# Altium integrated library TI Amplifiers and Linear Operational Amplifier Audio Operational Amplifier.IntLib: 56 symbols (part 1 of 2)
Pins are listed as number, name and electrical type; pins without a type are passive.

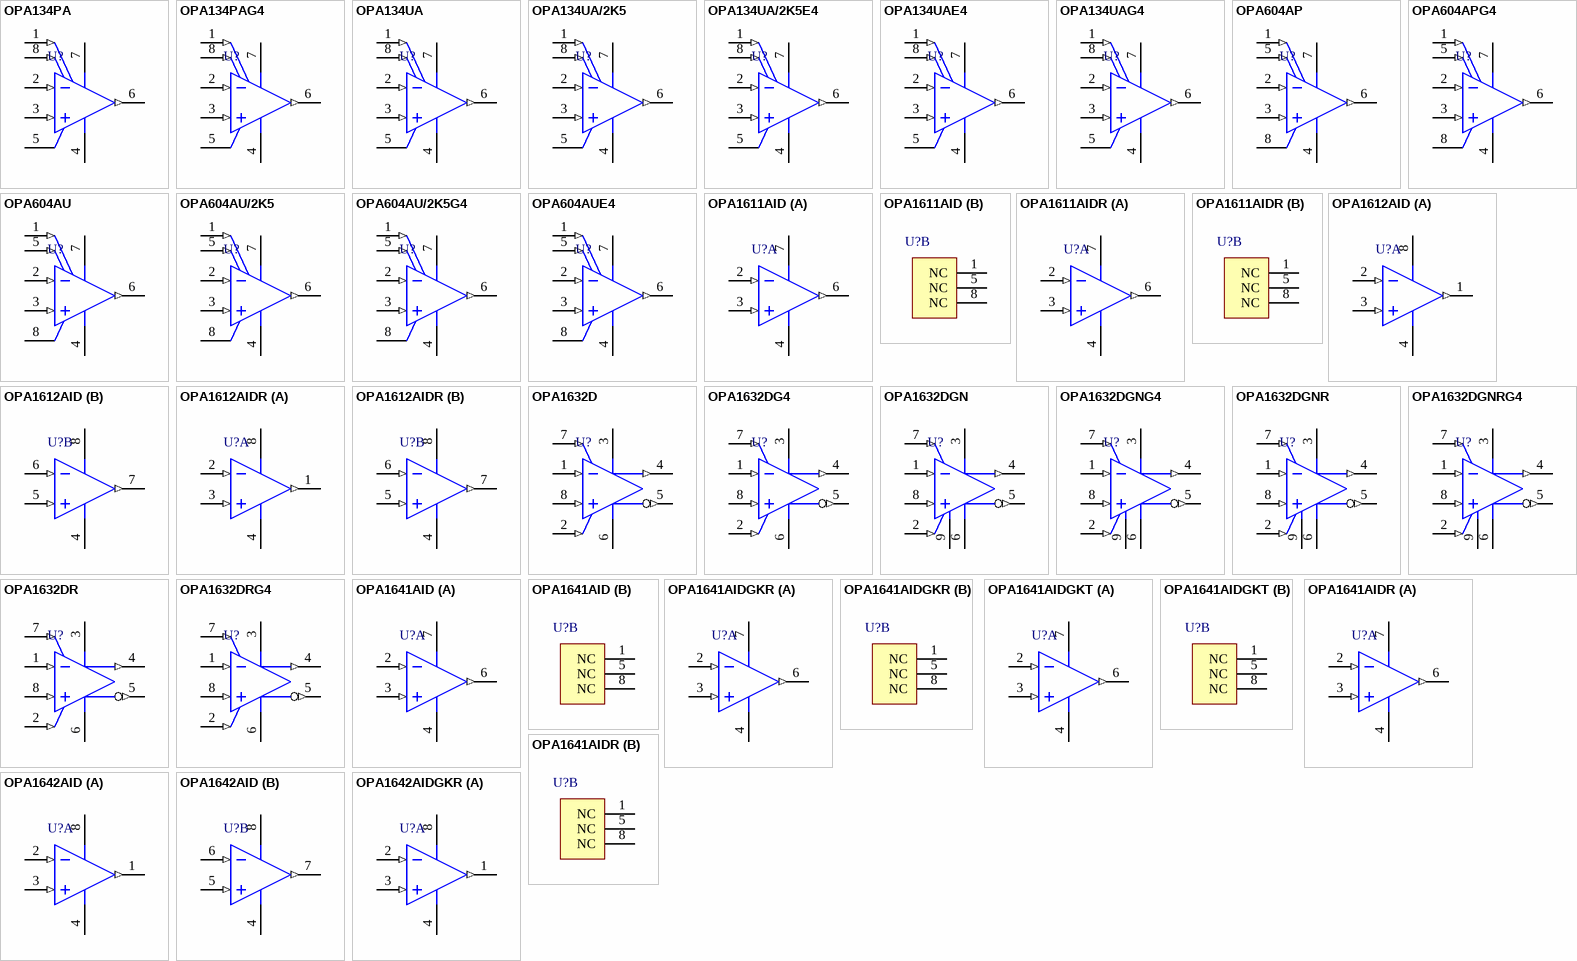
[diagram p0: symbols OPA134PA to OPA1642AIDGKR]

## OPA134PA
designator U?
SoundPlus(TM) High Performance Audio Operational Amplifier, 5 to 36 V, -40 to 85 degC, 8-pin DIP (P8), Green (RoHS & no Sb/Br); Manufacturer: Texas Instruments; PartNumber: OPA134PA; GBW(Typ)(MHz): 8; Iq per channel(Max)(mA): 5; Number of Channels: 1; Vmax(V): 36; DatasheetVersion: SBOS058; PackageVersion: 4040082/E, 04/2010; PackageReference: P8; PackageDescription: 8-Pin Plastic In-Line, Body 9.59 x 6.35 mm, Pitch 2.54 mm; Supplier 1: Digi-Key; Supplier Part Number 1: OPA134PA-ND; Supplier 2: Farnell; Supplier Part Number 2: 1335032; Supplier 3: Newark; Supplier Part Number 3: 75C4599; Supplier 4: Mouser; Supplier Part Number 4: 595-OPA134PA; Eco-Plan: Green (RoHS & no Sb/Br); SubFamily: Audio Operational Amplifier; Vmin(V): 5; Vn at Flatband(Typ)(nV/rtHz): 8; Mounting Technology: Through Hole; Code_JEDEC: MS-001; ComponentLink1Description: Manufacturer URL; ComponentLink1URL: http://www.ti.com/; ComponentLink2Description: Datasheet; ComponentLink2URL: http://www.ti.com/general/docs/lit/getliterature.tsp?genericPartNumber=OPA134&fileType=pdf; ComponentLink3Description: Package Specification; ComponentLink3URL: http://www.ti.com/litv/pdf/mpdi001b
footprint TI-P8 (DIP, 8-Leads, Body 9.59x6.35mm, Pitch 2.54mm)
pins: 1 OFFSET TRIM (in), 2 IN- (in), 3 IN+ (in), 4 V- (power), 5 NC, 6 OUT (out), 7 V+ (power), 8 OFFSET TRIM (in)

## OPA134PAG4
designator U?
SoundPlus(TM) High Performance Audio Operational Amplifier, 5 to 36 V, -40 to 85 degC, 8-pin DIP (P8), Green (RoHS & no Sb/Br); Manufacturer: Texas Instruments; PartNumber: OPA134PAG4; GBW(Typ)(MHz): 8; Iq per channel(Max)(mA): 5; Number of Channels: 1; Vmax(V): 36; DatasheetVersion: SBOS058; PackageVersion: 4040082/E, 04/2010; PackageReference: P8; PackageDescription: 8-Pin Plastic In-Line, Body 9.59 x 6.35 mm, Pitch 2.54 mm; Supplier 1: Digi-Key; Supplier Part Number 1: 296-36116-5-ND; Supplier 2: Farnell; Supplier Part Number 2: 1178437; Supplier 3: Newark; Supplier Part Number 3: 24M5437; Supplier 4: Newark; Supplier Part Number 4: 80K2635; Supplier 5: Mouser; Supplier Part Number 5: 595-OPA134PAG4; Eco-Plan: Green (RoHS & no Sb/Br); SubFamily: Audio Operational Amplifier; Vmin(V): 5; Vn at Flatband(Typ)(nV/rtHz): 8; Mounting Technology: Through Hole; Code_JEDEC: MS-001; ComponentLink1Description: Manufacturer URL; ComponentLink1URL: http://www.ti.com/; ComponentLink2Description: Datasheet; ComponentLink2URL: http://www.ti.com/general/docs/lit/getliterature.tsp?genericPartNumber=OPA134&fileType=pdf; ComponentLink3Description: Package Specification; ComponentLink3URL: http://www.ti.com/litv/pdf/mpdi001b
footprint TI-P8 (DIP, 8-Leads, Body 9.59x6.35mm, Pitch 2.54mm)
pins: 1 OFFSET TRIM (in), 2 IN- (in), 3 IN+ (in), 4 V- (power), 5 NC, 6 OUT (out), 7 V+ (power), 8 OFFSET TRIM (in)

## OPA134UA
designator U?
SoundPlus(TM) High Performance Audio Operational Amplifier, 5 to 36 V, -40 to 85 degC, 8-pin SOIC (D8), Green (RoHS & no Sb/Br); Manufacturer: Texas Instruments; PartNumber: OPA134UA; GBW(Typ)(MHz): 8; Iq per channel(Max)(mA): 5; Number of Channels: 1; Vmax(V): 36; DatasheetVersion: SBOS058; PackageVersion: 4040047-3/M, 06/2011; PackageReference: D8; PackageDescription: 8-Pin Plastic Small Outline, Body 4.9 x 3.9 mm, Pitch 1.27 mm; Supplier 1: Digi-Key; Supplier Part Number 1: OPA134UA-ND; Supplier 2: Farnell; Supplier Part Number 2: 1097514; Supplier 3: Newark; Supplier Part Number 3: 80K6009; Supplier 4: Mouser; Supplier Part Number 4: 595-OPA134UA; Eco-Plan: Green (RoHS & no Sb/Br); SubFamily: Audio Operational Amplifier; Vmin(V): 5; Vn at Flatband(Typ)(nV/rtHz): 8; Mounting Technology: Surface Mount; Code_JEDEC: MS-012; ComponentLink1Description: Manufacturer URL; ComponentLink1URL: http://www.ti.com/; ComponentLink2Description: Datasheet; ComponentLink2URL: http://www.ti.com/general/docs/lit/getliterature.tsp?genericPartNumber=OPA134&fileType=pdf; ComponentLink3Description: Package Specification; ComponentLink3URL: http://www.ti.com/litv/pdf/msoi002j
footprint TI-D8_N (SOIC, 8-Leads, Body 4.9x3.9mm, Pitch 1.27mm, IPC Medium Density)
footprint TI-D8_L (SOIC, 8-Leads, Body 4.9x3.9mm, Pitch 1.27mm, IPC High Density)
footprint TI-D8_M (SOIC, 8-Leads, Body 4.9x3.9mm, Pitch 1.27mm, IPC Low Density)
pins: 1 OFFSET TRIM (in), 2 IN- (in), 3 IN+ (in), 4 V- (power), 5 NC, 6 OUT (out), 7 V+ (power), 8 OFFSET TRIM (in)

## OPA134UA/2K5
designator U?
SoundPlus(TM) High Performance Audio Operational Amplifier, 5 to 36 V, -40 to 85 degC, 8-pin SOIC (D8), Green (RoHS & no Sb/Br); Manufacturer: Texas Instruments; PartNumber: OPA134UA/2K5; GBW(Typ)(MHz): 8; Iq per channel(Max)(mA): 5; Number of Channels: 1; Vmax(V): 36; DatasheetVersion: SBOS058; PackageVersion: 4040047-3/M, 06/2011; PackageReference: D8; PackageDescription: 8-Pin Plastic Small Outline, Body 4.9 x 3.9 mm, Pitch 1.27 mm; Supplier 1: Digi-Key; Supplier Part Number 1: 296-26241-2-ND; Supplier 2: Digi-Key; Supplier Part Number 2: 296-26241-1-ND; Supplier 3: Digi-Key; Supplier Part Number 3: 296-26241-6-ND; Supplier 4: Newark; Supplier Part Number 4: 75C4601; Supplier 5: Mouser; Supplier Part Number 5: 595-OPA134UA/2K5; Eco-Plan: Green (RoHS & no Sb/Br); SubFamily: Audio Operational Amplifier; Vmin(V): 5; Vn at Flatband(Typ)(nV/rtHz): 8; Mounting Technology: Surface Mount; Code_JEDEC: MS-012; ComponentLink1Description: Manufacturer URL; ComponentLink1URL: http://www.ti.com/; ComponentLink2Description: Datasheet; ComponentLink2URL: http://www.ti.com/general/docs/lit/getliterature.tsp?genericPartNumber=OPA134&fileType=pdf; ComponentLink3Description: Package Specification; ComponentLink3URL: http://www.ti.com/litv/pdf/msoi002j
footprint TI-D8_N (SOIC, 8-Leads, Body 4.9x3.9mm, Pitch 1.27mm, IPC Medium Density)
footprint TI-D8_L (SOIC, 8-Leads, Body 4.9x3.9mm, Pitch 1.27mm, IPC High Density)
footprint TI-D8_M (SOIC, 8-Leads, Body 4.9x3.9mm, Pitch 1.27mm, IPC Low Density)
pins: 1 OFFSET TRIM (in), 2 IN- (in), 3 IN+ (in), 4 V- (power), 5 NC, 6 OUT (out), 7 V+ (power), 8 OFFSET TRIM (in)

## OPA134UA/2K5E4
designator U?
SoundPlus(TM) High Performance Audio Operational Amplifier, 5 to 36 V, -40 to 85 degC, 8-pin SOIC (D8), Green (RoHS & no Sb/Br); Manufacturer: Texas Instruments; PartNumber: OPA134UA/2K5E4; GBW(Typ)(MHz): 8; Iq per channel(Max)(mA): 5; Number of Channels: 1; Vmax(V): 36; DatasheetVersion: SBOS058; PackageVersion: 4040047-3/M, 06/2011; PackageReference: D8; PackageDescription: 8-Pin Plastic Small Outline, Body 4.9 x 3.9 mm, Pitch 1.27 mm; Supplier 1: Digi-Key; Supplier Part Number 1: OPA134UA/2K5E4-ND; Supplier 2: Newark; Supplier Part Number 2: 61K1318; Supplier 3: Mouser; Supplier Part Number 3: 595-OPA134UA/2K5E4; Eco-Plan: Green (RoHS & no Sb/Br); SubFamily: Audio Operational Amplifier; Vmin(V): 5; Vn at Flatband(Typ)(nV/rtHz): 8; Mounting Technology: Surface Mount; Code_JEDEC: MS-012; ComponentLink1Description: Manufacturer URL; ComponentLink1URL: http://www.ti.com/; ComponentLink2Description: Datasheet; ComponentLink2URL: http://www.ti.com/general/docs/lit/getliterature.tsp?genericPartNumber=OPA134&fileType=pdf; ComponentLink3Description: Package Specification; ComponentLink3URL: http://www.ti.com/litv/pdf/msoi002j
footprint TI-D8_N (SOIC, 8-Leads, Body 4.9x3.9mm, Pitch 1.27mm, IPC Medium Density)
footprint TI-D8_L (SOIC, 8-Leads, Body 4.9x3.9mm, Pitch 1.27mm, IPC High Density)
footprint TI-D8_M (SOIC, 8-Leads, Body 4.9x3.9mm, Pitch 1.27mm, IPC Low Density)
pins: 1 OFFSET TRIM (in), 2 IN- (in), 3 IN+ (in), 4 V- (power), 5 NC, 6 OUT (out), 7 V+ (power), 8 OFFSET TRIM (in)

## OPA134UAE4
designator U?
SoundPlus(TM) High Performance Audio Operational Amplifier, 5 to 36 V, -40 to 85 degC, 8-pin SOIC (D8), Green (RoHS & no Sb/Br); Manufacturer: Texas Instruments; PartNumber: OPA134UAE4; GBW(Typ)(MHz): 8; Iq per channel(Max)(mA): 5; Number of Channels: 1; Vmax(V): 36; DatasheetVersion: SBOS058; PackageVersion: 4040047-3/M, 06/2011; PackageReference: D8; PackageDescription: 8-Pin Plastic Small Outline, Body 4.9 x 3.9 mm, Pitch 1.27 mm; Supplier 1: Digi-Key; Supplier Part Number 1: OPA134UAE4-ND; Supplier 2: Mouser; Supplier Part Number 2: 595-OPA134UAE4; Eco-Plan: Green (RoHS & no Sb/Br); SubFamily: Audio Operational Amplifier; Vmin(V): 5; Vn at Flatband(Typ)(nV/rtHz): 8; Mounting Technology: Surface Mount; Code_JEDEC: MS-012; ComponentLink1Description: Manufacturer URL; ComponentLink1URL: http://www.ti.com/; ComponentLink2Description: Datasheet; ComponentLink2URL: http://www.ti.com/general/docs/lit/getliterature.tsp?genericPartNumber=OPA134&fileType=pdf; ComponentLink3Description: Package Specification; ComponentLink3URL: http://www.ti.com/litv/pdf/msoi002j
footprint TI-D8_N (SOIC, 8-Leads, Body 4.9x3.9mm, Pitch 1.27mm, IPC Medium Density)
footprint TI-D8_L (SOIC, 8-Leads, Body 4.9x3.9mm, Pitch 1.27mm, IPC High Density)
footprint TI-D8_M (SOIC, 8-Leads, Body 4.9x3.9mm, Pitch 1.27mm, IPC Low Density)
pins: 1 OFFSET TRIM (in), 2 IN- (in), 3 IN+ (in), 4 V- (power), 5 NC, 6 OUT (out), 7 V+ (power), 8 OFFSET TRIM (in)

## OPA134UAG4
designator U?
SoundPlus(TM) High Performance Audio Operational Amplifier, 5 to 36 V, -40 to 85 degC, 8-pin SOIC (D8), Green (RoHS & no Sb/Br); Manufacturer: Texas Instruments; PartNumber: OPA134UAG4; GBW(Typ)(MHz): 8; Iq per channel(Max)(mA): 5; Number of Channels: 1; Vmax(V): 36; DatasheetVersion: SBOS058; PackageVersion: 4040047-3/M, 06/2011; PackageReference: D8; PackageDescription: 8-Pin Plastic Small Outline, Body 4.9 x 3.9 mm, Pitch 1.27 mm; Supplier 1: Digi-Key; Supplier Part Number 1: OPA134UAG4-ND; Supplier 2: Mouser; Supplier Part Number 2: 595-OPA134UAG4; Eco-Plan: Green (RoHS & no Sb/Br); SubFamily: Audio Operational Amplifier; Vmin(V): 5; Vn at Flatband(Typ)(nV/rtHz): 8; Mounting Technology: Surface Mount; Code_JEDEC: MS-012; ComponentLink1Description: Manufacturer URL; ComponentLink1URL: http://www.ti.com/; ComponentLink2Description: Datasheet; ComponentLink2URL: http://www.ti.com/general/docs/lit/getliterature.tsp?genericPartNumber=OPA134&fileType=pdf; ComponentLink3Description: Package Specification; ComponentLink3URL: http://www.ti.com/litv/pdf/msoi002j
footprint TI-D8_N (SOIC, 8-Leads, Body 4.9x3.9mm, Pitch 1.27mm, IPC Medium Density)
footprint TI-D8_L (SOIC, 8-Leads, Body 4.9x3.9mm, Pitch 1.27mm, IPC High Density)
footprint TI-D8_M (SOIC, 8-Leads, Body 4.9x3.9mm, Pitch 1.27mm, IPC Low Density)
pins: 1 OFFSET TRIM (in), 2 IN- (in), 3 IN+ (in), 4 V- (power), 5 NC, 6 OUT (out), 7 V+ (power), 8 OFFSET TRIM (in)

## OPA604AP
designator U?
FET-Input, Audio Operational Amplifier, 9 to 48 V, -25 to 85 degC, 8-pin DIP (P8), Green (RoHS & no Sb/Br); Manufacturer: Texas Instruments; PartNumber: OPA604AP; GBW(Typ)(MHz): 20; Iq per channel(Max)(mA): 7; Number of Channels: 1; Vmax(V): 48; Vmin(V): 9; Vn at Flatband(Typ)(nV/rtHz): 11; DatasheetVersion: SBOS019A; PackageVersion: 4040082/E, 04/2010; PackageReference: P8; PackageDescription: 8-Pin Plastic In-Line, Body 9.59 x 6.35 mm, Pitch 2.54 mm; Supplier 1: Digi-Key; Supplier Part Number 1: OPA604AP-ND; Supplier 2: Farnell; Supplier Part Number 2: 1651885; Supplier 3: Newark; Supplier Part Number 3: 88K1967; Supplier 4: Mouser; Supplier Part Number 4: 595-OPA604AP; Eco-Plan: Green (RoHS & no Sb/Br); SubFamily: Audio Operational Amplifier; Mounting Technology: Through Hole; Code_JEDEC: MS-001; ComponentLink1Description: Manufacturer URL; ComponentLink1URL: http://www.ti.com/; ComponentLink2Description: Datasheet; ComponentLink2URL: http://www.ti.com/general/docs/lit/getliterature.tsp?genericPartNumber=OPA604&fileType=pdf; ComponentLink3Description: Package Specification; ComponentLink3URL: http://www.ti.com/litv/pdf/mpdi001b
footprint TI-P8 (DIP, 8-Leads, Body 9.59x6.35mm, Pitch 2.54mm)
pins: 1 OFFSET TRIM (in), 2 IN- (in), 3 IN+ (in), 4 VS- (power), 5 OFFSET TRIM (in), 6 OUT (out), 7 VS+ (power), 8 NC

## OPA604APG4
designator U?
FET-Input, Audio Operational Amplifier, 9 to 48 V, -25 to 85 degC, 8-pin DIP (P8), Green (RoHS & no Sb/Br); Manufacturer: Texas Instruments; PartNumber: OPA604APG4; GBW(Typ)(MHz): 20; Iq per channel(Max)(mA): 7; Number of Channels: 1; Vmax(V): 48; Vmin(V): 9; Vn at Flatband(Typ)(nV/rtHz): 11; DatasheetVersion: SBOS019A; PackageVersion: 4040082/E, 04/2010; PackageReference: P8; PackageDescription: 8-Pin Plastic In-Line, Body 9.59 x 6.35 mm, Pitch 2.54 mm; Supplier 1: Digi-Key; Supplier Part Number 1: OPA604APG4-ND; Supplier 2: Farnell; Supplier Part Number 2: 1178434; Supplier 3: Newark; Supplier Part Number 3: 81K3712; Supplier 4: Mouser; Supplier Part Number 4: 595-OPA604APG4; Eco-Plan: Green (RoHS & no Sb/Br); SubFamily: Audio Operational Amplifier; Mounting Technology: Through Hole; Code_JEDEC: MS-001; ComponentLink1Description: Manufacturer URL; ComponentLink1URL: http://www.ti.com/; ComponentLink2Description: Datasheet; ComponentLink2URL: http://www.ti.com/general/docs/lit/getliterature.tsp?genericPartNumber=OPA604&fileType=pdf; ComponentLink3Description: Package Specification; ComponentLink3URL: http://www.ti.com/litv/pdf/mpdi001b
footprint TI-P8 (DIP, 8-Leads, Body 9.59x6.35mm, Pitch 2.54mm)
pins: 1 OFFSET TRIM (in), 2 IN- (in), 3 IN+ (in), 4 VS- (power), 5 OFFSET TRIM (in), 6 OUT (out), 7 VS+ (power), 8 NC

## OPA604AU
designator U?
FET-Input, Audio Operational Amplifier, 9 to 48 V, -25 to 85 degC, 8-pin SOIC (D8), Green (RoHS & no Sb/Br); Manufacturer: Texas Instruments; PartNumber: OPA604AU; GBW(Typ)(MHz): 20; Iq per channel(Max)(mA): 7; Number of Channels: 1; Vmax(V): 48; Vmin(V): 9; Vn at Flatband(Typ)(nV/rtHz): 11; DatasheetVersion: SBOS019A; PackageVersion: 4040047-3/M, 06/2011; PackageReference: D8; PackageDescription: 8-Pin Plastic Small Outline, Body 4.9 x 3.9 mm, Pitch 1.27 mm; Supplier 1: Digi-Key; Supplier Part Number 1: OPA604AU-ND; Supplier 2: Farnell; Supplier Part Number 2: 1212317; Supplier 3: Newark; Supplier Part Number 3: 75C5082; Supplier 4: Mouser; Supplier Part Number 4: 595-OPA604AU; Eco-Plan: Green (RoHS & no Sb/Br); SubFamily: Audio Operational Amplifier; Mounting Technology: Surface Mount; Code_JEDEC: MS-012; ComponentLink1Description: Manufacturer URL; ComponentLink1URL: http://www.ti.com/; ComponentLink2Description: Datasheet; ComponentLink2URL: http://www.ti.com/general/docs/lit/getliterature.tsp?genericPartNumber=OPA604&fileType=pdf; ComponentLink3Description: Package Specification; ComponentLink3URL: http://www.ti.com/litv/pdf/msoi002j
footprint TI-D8_N (SOIC, 8-Leads, Body 4.9x3.9mm, Pitch 1.27mm, IPC Medium Density)
footprint TI-D8_L (SOIC, 8-Leads, Body 4.9x3.9mm, Pitch 1.27mm, IPC High Density)
footprint TI-D8_M (SOIC, 8-Leads, Body 4.9x3.9mm, Pitch 1.27mm, IPC Low Density)
pins: 1 OFFSET TRIM (in), 2 IN- (in), 3 IN+ (in), 4 VS- (power), 5 OFFSET TRIM (in), 6 OUT (out), 7 VS+ (power), 8 NC

## OPA604AU/2K5
designator U?
FET-Input, Audio Operational Amplifier, 9 to 48 V, -25 to 85 degC, 8-pin SOIC (D8), Green (RoHS & no Sb/Br); Manufacturer: Texas Instruments; PartNumber: OPA604AU/2K5; GBW(Typ)(MHz): 20; Iq per channel(Max)(mA): 7; Number of Channels: 1; Vmax(V): 48; Vmin(V): 9; Vn at Flatband(Typ)(nV/rtHz): 11; DatasheetVersion: SBOS019A; PackageVersion: 4040047-3/M, 06/2011; PackageReference: D8; PackageDescription: 8-Pin Plastic Small Outline, Body 4.9 x 3.9 mm, Pitch 1.27 mm; Supplier 1: Digi-Key; Supplier Part Number 1: OPA604AU/2K5-ND; Supplier 2: Newark; Supplier Part Number 2: 75C5083; Supplier 3: Mouser; Supplier Part Number 3: 595-OPA604AU/2K5; Eco-Plan: Green (RoHS & no Sb/Br); SubFamily: Audio Operational Amplifier; Mounting Technology: Surface Mount; Code_JEDEC: MS-012; ComponentLink1Description: Manufacturer URL; ComponentLink1URL: http://www.ti.com/; ComponentLink2Description: Datasheet; ComponentLink2URL: http://www.ti.com/general/docs/lit/getliterature.tsp?genericPartNumber=OPA604&fileType=pdf; ComponentLink3Description: Package Specification; ComponentLink3URL: http://www.ti.com/litv/pdf/msoi002j
footprint TI-D8_N (SOIC, 8-Leads, Body 4.9x3.9mm, Pitch 1.27mm, IPC Medium Density)
footprint TI-D8_L (SOIC, 8-Leads, Body 4.9x3.9mm, Pitch 1.27mm, IPC High Density)
footprint TI-D8_M (SOIC, 8-Leads, Body 4.9x3.9mm, Pitch 1.27mm, IPC Low Density)
pins: 1 OFFSET TRIM (in), 2 IN- (in), 3 IN+ (in), 4 VS- (power), 5 OFFSET TRIM (in), 6 OUT (out), 7 VS+ (power), 8 NC

## OPA604AU/2K5G4
designator U?
FET-Input, Audio Operational Amplifier, 9 to 48 V, -25 to 85 degC, 8-pin SOIC (D8), Green (RoHS & no Sb/Br); Manufacturer: Texas Instruments; PartNumber: OPA604AU/2K5G4; GBW(Typ)(MHz): 20; Iq per channel(Max)(mA): 7; Number of Channels: 1; Vmax(V): 48; Vmin(V): 9; Vn at Flatband(Typ)(nV/rtHz): 11; DatasheetVersion: SBOS019A; PackageVersion: 4040047-3/M, 06/2011; PackageReference: D8; PackageDescription: 8-Pin Plastic Small Outline, Body 4.9 x 3.9 mm, Pitch 1.27 mm; Supplier 1: Digi-Key; Supplier Part Number 1: OPA604AU/2K5G4-ND; Supplier 2: Mouser; Supplier Part Number 2: 595-OPA604AU/2K5G4; Eco-Plan: Green (RoHS & no Sb/Br); SubFamily: Audio Operational Amplifier; Mounting Technology: Surface Mount; Code_JEDEC: MS-012; ComponentLink1Description: Manufacturer URL; ComponentLink1URL: http://www.ti.com/; ComponentLink2Description: Datasheet; ComponentLink2URL: http://www.ti.com/general/docs/lit/getliterature.tsp?genericPartNumber=OPA604&fileType=pdf; ComponentLink3Description: Package Specification; ComponentLink3URL: http://www.ti.com/litv/pdf/msoi002j
footprint TI-D8_N (SOIC, 8-Leads, Body 4.9x3.9mm, Pitch 1.27mm, IPC Medium Density)
footprint TI-D8_L (SOIC, 8-Leads, Body 4.9x3.9mm, Pitch 1.27mm, IPC High Density)
footprint TI-D8_M (SOIC, 8-Leads, Body 4.9x3.9mm, Pitch 1.27mm, IPC Low Density)
pins: 1 OFFSET TRIM (in), 2 IN- (in), 3 IN+ (in), 4 VS- (power), 5 OFFSET TRIM (in), 6 OUT (out), 7 VS+ (power), 8 NC

## OPA604AUE4
designator U?
FET-Input, Audio Operational Amplifier, 9 to 48 V, -25 to 85 degC, 8-pin SOIC (D8), Green (RoHS & no Sb/Br); Manufacturer: Texas Instruments; PartNumber: OPA604AUE4; GBW(Typ)(MHz): 20; Iq per channel(Max)(mA): 7; Number of Channels: 1; Vmax(V): 48; Vmin(V): 9; Vn at Flatband(Typ)(nV/rtHz): 11; DatasheetVersion: SBOS019A; PackageVersion: 4040047-3/M, 06/2011; PackageReference: D8; PackageDescription: 8-Pin Plastic Small Outline, Body 4.9 x 3.9 mm, Pitch 1.27 mm; Supplier 1: Digi-Key; Supplier Part Number 1: OPA604AUE4-ND; Supplier 2: Mouser; Supplier Part Number 2: 595-OPA604AUE4; Eco-Plan: Green (RoHS & no Sb/Br); SubFamily: Audio Operational Amplifier; Mounting Technology: Surface Mount; Code_JEDEC: MS-012; ComponentLink1Description: Manufacturer URL; ComponentLink1URL: http://www.ti.com/; ComponentLink2Description: Datasheet; ComponentLink2URL: http://www.ti.com/general/docs/lit/getliterature.tsp?genericPartNumber=OPA604&fileType=pdf; ComponentLink3Description: Package Specification; ComponentLink3URL: http://www.ti.com/litv/pdf/msoi002j
footprint TI-D8_N (SOIC, 8-Leads, Body 4.9x3.9mm, Pitch 1.27mm, IPC Medium Density)
footprint TI-D8_L (SOIC, 8-Leads, Body 4.9x3.9mm, Pitch 1.27mm, IPC High Density)
footprint TI-D8_M (SOIC, 8-Leads, Body 4.9x3.9mm, Pitch 1.27mm, IPC Low Density)
pins: 1 OFFSET TRIM (in), 2 IN- (in), 3 IN+ (in), 4 VS- (power), 5 OFFSET TRIM (in), 6 OUT (out), 7 VS+ (power), 8 NC

## OPA1611AID
designator U?
1.1 nV/rtHz Noise, Low Power, Precision Operational Amplifier, 4.5 to 36 V, -40 to 85 degC, 8-pin SOIC (D8), Green (RoHS & no Sb/Br); Manufacturer: Texas Instruments; PartNumber: OPA1611AID; GBW(Typ)(MHz): 40; Iq per channel(Max)(mA): 4.5; Number of Channels: 1; SubFamily: Audio Operational Amplifier; Vmax(V): 36; Vn at Flatband(Typ)(nV/rtHz): 1.1; DatasheetVersion: SBOS450B; PackageVersion: 4040047-3/M, 06/2011; PackageReference: D8; PackageDescription: 8-Pin Plastic Small Outline, Body 4.9 x 3.9 mm, Pitch 1.27 mm; Supplier 1: Digi-Key; Supplier Part Number 1: 296-24958-5-ND; Supplier 2: Farnell; Supplier Part Number 2: 1754264; Supplier 3: Newark; Supplier Part Number 3: 50R7815; Supplier 4: Mouser; Supplier Part Number 4: 595-OPA1611AID; Eco-Plan: Green (RoHS & no Sb/Br); Vmin(V): 4.5; Mounting Technology: Surface Mount; Code_JEDEC: MS-012; ComponentLink1Description: Manufacturer URL; ComponentLink1URL: http://www.ti.com/; ComponentLink2Description: Datasheet; ComponentLink2URL: http://www.ti.com/general/docs/lit/getliterature.tsp?genericPartNumber=OPA1611&fileType=pdf; ComponentLink3Description: Package Specification; ComponentLink3URL: http://www.ti.com/litv/pdf/msoi002j
footprint TI-D8_N (SOIC, 8-Leads, Body 4.9x3.9mm, Pitch 1.27mm, IPC Medium Density)
footprint TI-D8_L (SOIC, 8-Leads, Body 4.9x3.9mm, Pitch 1.27mm, IPC High Density)
footprint TI-D8_M (SOIC, 8-Leads, Body 4.9x3.9mm, Pitch 1.27mm, IPC Low Density)
part A pins: 2 IN- (in), 3 IN+ (in), 4 V- (power), 6 OUT (out), 7 V+ (power)
part B pins: 1 NC, 5 NC, 8 NC

## OPA1611AIDR
designator U?
1.1 nV/rtHz Noise, Low Power, Precision Operational Amplifier, 4.5 to 36 V, -40 to 85 degC, 8-pin SOIC (D8), Green (RoHS & no Sb/Br); Manufacturer: Texas Instruments; PartNumber: OPA1611AIDR; GBW(Typ)(MHz): 40; Iq per channel(Max)(mA): 4.5; Number of Channels: 1; SubFamily: Audio Operational Amplifier; Vmax(V): 36; Vn at Flatband(Typ)(nV/rtHz): 1.1; DatasheetVersion: SBOS450B; PackageVersion: 4040047-3/M, 06/2011; PackageReference: D8; PackageDescription: 8-Pin Plastic Small Outline, Body 4.9 x 3.9 mm, Pitch 1.27 mm; Supplier 1: Digi-Key; Supplier Part Number 1: OPA1611AIDR-ND; Supplier 2: Newark; Supplier Part Number 2: 50R7816; Supplier 3: Mouser; Supplier Part Number 3: 595-OPA1611AIDR; Eco-Plan: Green (RoHS & no Sb/Br); Vmin(V): 4.5; Mounting Technology: Surface Mount; Code_JEDEC: MS-012; ComponentLink1Description: Manufacturer URL; ComponentLink1URL: http://www.ti.com/; ComponentLink2Description: Datasheet; ComponentLink2URL: http://www.ti.com/general/docs/lit/getliterature.tsp?genericPartNumber=OPA1611&fileType=pdf; ComponentLink3Description: Package Specification; ComponentLink3URL: http://www.ti.com/litv/pdf/msoi002j
footprint TI-D8_N (SOIC, 8-Leads, Body 4.9x3.9mm, Pitch 1.27mm, IPC Medium Density)
footprint TI-D8_L (SOIC, 8-Leads, Body 4.9x3.9mm, Pitch 1.27mm, IPC High Density)
footprint TI-D8_M (SOIC, 8-Leads, Body 4.9x3.9mm, Pitch 1.27mm, IPC Low Density)
part A pins: 2 IN- (in), 3 IN+ (in), 4 V- (power), 6 OUT (out), 7 V+ (power)
part B pins: 1 NC, 5 NC, 8 NC

## OPA1612AID
designator U?
1.1 nV/rtHz Noise, Low Power, Precision Operational Amplifier, 4.5 to 36 V, -40 to 85 degC, 8-pin SOIC (D8), Green (RoHS & no Sb/Br); Manufacturer: Texas Instruments; PartNumber: OPA1612AID; GBW(Typ)(MHz): 40; Iq per channel(Max)(mA): 4.5; Number of Channels: 2; SubFamily: Audio Operational Amplifier; Vmax(V): 36; Vn at Flatband(Typ)(nV/rtHz): 1.1; DatasheetVersion: SBOS450B; PackageVersion: 4040047-3/M, 06/2011; PackageReference: D8; PackageDescription: 8-Pin Plastic Small Outline, Body 4.9 x 3.9 mm, Pitch 1.27 mm; Supplier 1: Digi-Key; Supplier Part Number 1: 296-24959-5-ND; Supplier 2: Farnell; Supplier Part Number 2: 1754265; Supplier 3: Newark; Supplier Part Number 3: 25R6133; Supplier 4: Mouser; Supplier Part Number 4: 595-OPA1612AID; Eco-Plan: Green (RoHS & no Sb/Br); Vmin(V): 4.5; Mounting Technology: Surface Mount; Code_JEDEC: MS-012; ComponentLink1Description: Manufacturer URL; ComponentLink1URL: http://www.ti.com/; ComponentLink2Description: Datasheet; ComponentLink2URL: http://www.ti.com/general/docs/lit/getliterature.tsp?genericPartNumber=OPA1612&fileType=pdf; ComponentLink3Description: Package Specification; ComponentLink3URL: http://www.ti.com/litv/pdf/msoi002j
footprint TI-D8_N (SOIC, 8-Leads, Body 4.9x3.9mm, Pitch 1.27mm, IPC Medium Density)
footprint TI-D8_L (SOIC, 8-Leads, Body 4.9x3.9mm, Pitch 1.27mm, IPC High Density)
footprint TI-D8_M (SOIC, 8-Leads, Body 4.9x3.9mm, Pitch 1.27mm, IPC Low Density)
pins on every part: 4 V- (power), 8 V+ (power)
part A pins: 1 OUT A (out), 2 IN A- (in), 3 IN A+ (in)
part B pins: 5 IN B+ (in), 6 IN B- (in), 7 OUT B (out)

## OPA1612AIDR
designator U?
1.1 nV/rtHz Noise, Low Power, Precision Operational Amplifier, 4.5 to 36 V, -40 to 85 degC, 8-pin SOIC (D8), Green (RoHS & no Sb/Br); Manufacturer: Texas Instruments; PartNumber: OPA1612AIDR; GBW(Typ)(MHz): 40; Iq per channel(Max)(mA): 4.5; Number of Channels: 2; SubFamily: Audio Operational Amplifier; Vmax(V): 36; Vn at Flatband(Typ)(nV/rtHz): 1.1; DatasheetVersion: SBOS450B; PackageVersion: 4040047-3/M, 06/2011; PackageReference: D8; PackageDescription: 8-Pin Plastic Small Outline, Body 4.9 x 3.9 mm, Pitch 1.27 mm; Supplier 1: Digi-Key; Supplier Part Number 1: OPA1612AIDR-ND; Supplier 2: Mouser; Supplier Part Number 2: 595-OPA1612AIDR; Eco-Plan: Green (RoHS & no Sb/Br); Vmin(V): 4.5; Mounting Technology: Surface Mount; Code_JEDEC: MS-012; ComponentLink1Description: Manufacturer URL; ComponentLink1URL: http://www.ti.com/; ComponentLink2Description: Datasheet; ComponentLink2URL: http://www.ti.com/general/docs/lit/getliterature.tsp?genericPartNumber=OPA1612&fileType=pdf; ComponentLink3Description: Package Specification; ComponentLink3URL: http://www.ti.com/litv/pdf/msoi002j
footprint TI-D8_N (SOIC, 8-Leads, Body 4.9x3.9mm, Pitch 1.27mm, IPC Medium Density)
footprint TI-D8_L (SOIC, 8-Leads, Body 4.9x3.9mm, Pitch 1.27mm, IPC High Density)
footprint TI-D8_M (SOIC, 8-Leads, Body 4.9x3.9mm, Pitch 1.27mm, IPC Low Density)
pins on every part: 4 V- (power), 8 V+ (power)
part A pins: 1 OUT A (out), 2 IN A- (in), 3 IN A+ (in)
part B pins: 5 IN B+ (in), 6 IN B- (in), 7 OUT B (out)

## OPA1632D
designator U?
Fully Differential I/O Audio Amplifier, 5 to 32 V, -40 to 85 degC, 8-pin SOIC (D8), Green (RoHS & no Sb/Br); Manufacturer: Texas Instruments; PartNumber: OPA1632D; BW @ Acl(MHz): 180; Iq per channel(Max)(mA): 17.1; Number of Channels: 1; SubFamily: Audio Operational Amplifier; Vmax(V): 32; Vmin(V): 5; Vn at Flatband(Typ)(nV/rtHz): 1.3; DatasheetVersion: SBOS286B; PackageVersion: 4040047-3/M, 06/2011; PackageReference: D8; PackageDescription: 8-Pin Plastic Small Outline, Body 4.9 x 3.9 mm, Pitch 1.27 mm; Supplier 1: Digi-Key; Supplier Part Number 1: 296-16679-5-ND; Supplier 2: Farnell; Supplier Part Number 2: 8467455; Supplier 3: Newark; Supplier Part Number 3: 68K1111; Supplier 4: Mouser; Supplier Part Number 4: 595-OPA1632D; Eco-Plan: Green (RoHS & no Sb/Br); GBW(Typ)(MHz): 180; Mounting Technology: Surface Mount; Code_JEDEC: MS-012; ComponentLink1Description: Manufacturer URL; ComponentLink1URL: http://www.ti.com/; ComponentLink2Description: Datasheet; ComponentLink2URL: http://www.ti.com/general/docs/lit/getliterature.tsp?genericPartNumber=OPA1632&fileType=pdf; ComponentLink3Description: Package Specification; ComponentLink3URL: http://www.ti.com/litv/pdf/msoi002j
footprint TI-D8_N (SOIC, 8-Leads, Body 4.9x3.9mm, Pitch 1.27mm, IPC Medium Density)
footprint TI-D8_L (SOIC, 8-Leads, Body 4.9x3.9mm, Pitch 1.27mm, IPC High Density)
footprint TI-D8_M (SOIC, 8-Leads, Body 4.9x3.9mm, Pitch 1.27mm, IPC Low Density)
pins: 1 VIN- (in), 2 VOCM (in), 3 V+ (power), 4 VOUT+ (out), 5 VOUT- (out), 6 V- (power), 7 ENABLE (in), 8 VIN+ (in)

## OPA1632DG4
designator U?
Fully Differential I/O Audio Amplifier, 5 to 32 V, -40 to 85 degC, 8-pin SOIC (D8), Green (RoHS & no Sb/Br); Manufacturer: Texas Instruments; PartNumber: OPA1632DG4; BW @ Acl(MHz): 180; Iq per channel(Max)(mA): 17.1; Number of Channels: 1; SubFamily: Audio Operational Amplifier; Vmax(V): 32; Vmin(V): 5; Vn at Flatband(Typ)(nV/rtHz): 1.3; DatasheetVersion: SBOS286B; PackageVersion: 4040047-3/M, 06/2011; PackageReference: D8; PackageDescription: 8-Pin Plastic Small Outline, Body 4.9 x 3.9 mm, Pitch 1.27 mm; Supplier 1: Digi-Key; Supplier Part Number 1: OPA1632DG4-ND; Supplier 2: Newark; Supplier Part Number 2: 66K3982; Supplier 3: Mouser; Supplier Part Number 3: 595-OPA1632DG4; Eco-Plan: Green (RoHS & no Sb/Br); GBW(Typ)(MHz): 180; Mounting Technology: Surface Mount; Code_JEDEC: MS-012; ComponentLink1Description: Manufacturer URL; ComponentLink1URL: http://www.ti.com/; ComponentLink2Description: Datasheet; ComponentLink2URL: http://www.ti.com/general/docs/lit/getliterature.tsp?genericPartNumber=OPA1632&fileType=pdf; ComponentLink3Description: Package Specification; ComponentLink3URL: http://www.ti.com/litv/pdf/msoi002j
footprint TI-D8_N (SOIC, 8-Leads, Body 4.9x3.9mm, Pitch 1.27mm, IPC Medium Density)
footprint TI-D8_L (SOIC, 8-Leads, Body 4.9x3.9mm, Pitch 1.27mm, IPC High Density)
footprint TI-D8_M (SOIC, 8-Leads, Body 4.9x3.9mm, Pitch 1.27mm, IPC Low Density)
pins: 1 VIN- (in), 2 VOCM (in), 3 V+ (power), 4 VOUT+ (out), 5 VOUT- (out), 6 V- (power), 7 ENABLE (in), 8 VIN+ (in)

## OPA1632DGN
designator U?
Fully Differential I/O Audio Amplifier, 5 to 32 V, -40 to 85 degC, 8-pin SOP (DGN8), Green (RoHS & no Sb/Br); Manufacturer: Texas Instruments; PartNumber: OPA1632DGN; BW @ Acl(MHz): 180; Iq per channel(Max)(mA): 17.1; Number of Channels: 1; SubFamily: Audio Operational Amplifier; Vmax(V): 32; Vmin(V): 5; Vn at Flatband(Typ)(nV/rtHz): 1.3; DatasheetVersion: SBOS286B; PackageVersion: 4073271/F, 05/2011; PackageReference: DGN8-1760X1425TP; PackageDescription: 8-Pin Plastic Small Outline, Body 3 x 3 mm, Pitch 0.65 mm; Supplier 1: Digi-Key; Supplier Part Number 1: 296-17008-ND; Supplier 2: Farnell; Supplier Part Number 2: 8467463; Supplier 3: Newark; Supplier Part Number 3: 38K6133; Supplier 4: Newark; Supplier Part Number 4: 90H2229; Supplier 5: Mouser; Supplier Part Number 5: 595-OPA1632DGN; Eco-Plan: Green (RoHS & no Sb/Br); GBW(Typ)(MHz): 180; Mounting Technology: Surface Mount; Code_JEDEC: MO-187; ComponentLink1Description: Manufacturer URL; ComponentLink1URL: http://www.ti.com/; ComponentLink2Description: Datasheet; ComponentLink2URL: http://www.ti.com/general/docs/lit/getliterature.tsp?genericPartNumber=OPA1632&fileType=pdf; ComponentLink3Description: Package Specification; ComponentLink3URL: http://www.ti.com/litv/pdf/mpds046e
footprint TI-DGN8-1760X1425TP_N (SOP, 8-Leads, Body 3x3mm, Pitch 0.65mm, Thermal Pad 1.76x1.425mm, IPC Medium Density)
footprint TI-DGN8-1760X1425TP_L (SOP, 8-Leads, Body 3x3mm, Pitch 0.65mm, Thermal Pad 1.76x1.425mm, IPC High Density)
footprint TI-DGN8-1760X1425TP_M (SOP, 8-Leads, Body 3x3mm, Pitch 0.65mm, Thermal Pad 1.76 x 1.425 mm, IPC Low Density)
pins: 1 VIN- (in), 2 VOCM (in), 3 V+ (power), 4 VOUT+ (out), 5 VOUT- (out), 6 V- (power), 7 ENABLE (in), 8 VIN+ (in), 9 EP

## OPA1632DGNG4
designator U?
Fully Differential I/O Audio Amplifier, 5 to 32 V, -40 to 85 degC, 8-pin SOP (DGN8), Green (RoHS & no Sb/Br); Manufacturer: Texas Instruments; PartNumber: OPA1632DGNG4; BW @ Acl(MHz): 180; Iq per channel(Max)(mA): 17.1; Number of Channels: 1; SubFamily: Audio Operational Amplifier; Vmax(V): 32; Vmin(V): 5; Vn at Flatband(Typ)(nV/rtHz): 1.3; DatasheetVersion: SBOS286B; PackageVersion: 4073271/F, 05/2011; PackageReference: DGN8-1760X1425TP; PackageDescription: 8-Pin Plastic Small Outline, Body 3 x 3 mm, Pitch 0.65 mm; Supplier 1: Digi-Key; Supplier Part Number 1: OPA1632DGNG4-ND; Supplier 2: Mouser; Supplier Part Number 2: 595-OPA1632DGNG4; Eco-Plan: Green (RoHS & no Sb/Br); GBW(Typ)(MHz): 180; Mounting Technology: Surface Mount; Code_JEDEC: MO-187; ComponentLink1Description: Manufacturer URL; ComponentLink1URL: http://www.ti.com/; ComponentLink2Description: Datasheet; ComponentLink2URL: http://www.ti.com/general/docs/lit/getliterature.tsp?genericPartNumber=OPA1632&fileType=pdf; ComponentLink3Description: Package Specification; ComponentLink3URL: http://www.ti.com/litv/pdf/mpds046e
footprint TI-DGN8-1760X1425TP_N (SOP, 8-Leads, Body 3x3mm, Pitch 0.65mm, Thermal Pad 1.76x1.425mm, IPC Medium Density)
footprint TI-DGN8-1760X1425TP_L (SOP, 8-Leads, Body 3x3mm, Pitch 0.65mm, Thermal Pad 1.76x1.425mm, IPC High Density)
footprint TI-DGN8-1760X1425TP_M (SOP, 8-Leads, Body 3x3mm, Pitch 0.65mm, Thermal Pad 1.76 x 1.425 mm, IPC Low Density)
pins: 1 VIN- (in), 2 VOCM (in), 3 V+ (power), 4 VOUT+ (out), 5 VOUT- (out), 6 V- (power), 7 ENABLE (in), 8 VIN+ (in), 9 EP

## OPA1632DGNR
designator U?
Fully Differential I/O Audio Amplifier, 5 to 32 V, -40 to 85 degC, 8-pin SOP (DGN8), Green (RoHS & no Sb/Br); Manufacturer: Texas Instruments; PartNumber: OPA1632DGNR; BW @ Acl(MHz): 180; Iq per channel(Max)(mA): 17.1; Number of Channels: 1; SubFamily: Audio Operational Amplifier; Vmax(V): 32; Vmin(V): 5; Vn at Flatband(Typ)(nV/rtHz): 1.3; DatasheetVersion: SBOS286B; PackageVersion: 4073271/F, 05/2011; PackageReference: DGN8-1760X1425TP; PackageDescription: 8-Pin Plastic Small Outline, Body 3 x 3 mm, Pitch 0.65 mm; Supplier 1: Digi-Key; Supplier Part Number 1: OPA1632DGNR-ND; Supplier 2: Newark; Supplier Part Number 2: 90H2230; Supplier 3: Mouser; Supplier Part Number 3: 595-OPA1632DGNR; Eco-Plan: Green (RoHS & no Sb/Br); GBW(Typ)(MHz): 180; Mounting Technology: Surface Mount; Code_JEDEC: MO-187; ComponentLink1Description: Manufacturer URL; ComponentLink1URL: http://www.ti.com/; ComponentLink2Description: Datasheet; ComponentLink2URL: http://www.ti.com/general/docs/lit/getliterature.tsp?genericPartNumber=OPA1632&fileType=pdf; ComponentLink3Description: Package Specification; ComponentLink3URL: http://www.ti.com/litv/pdf/mpds046e
footprint TI-DGN8-1760X1425TP_N (SOP, 8-Leads, Body 3x3mm, Pitch 0.65mm, Thermal Pad 1.76x1.425mm, IPC Medium Density)
footprint TI-DGN8-1760X1425TP_L (SOP, 8-Leads, Body 3x3mm, Pitch 0.65mm, Thermal Pad 1.76x1.425mm, IPC High Density)
footprint TI-DGN8-1760X1425TP_M (SOP, 8-Leads, Body 3x3mm, Pitch 0.65mm, Thermal Pad 1.76 x 1.425 mm, IPC Low Density)
pins: 1 VIN- (in), 2 VOCM (in), 3 V+ (power), 4 VOUT+ (out), 5 VOUT- (out), 6 V- (power), 7 ENABLE (in), 8 VIN+ (in), 9 EP

## OPA1632DGNRG4
designator U?
Fully Differential I/O Audio Amplifier, 5 to 32 V, -40 to 85 degC, 8-pin SOP (DGN8), Green (RoHS & no Sb/Br); Manufacturer: Texas Instruments; PartNumber: OPA1632DGNRG4; BW @ Acl(MHz): 180; Iq per channel(Max)(mA): 17.1; Number of Channels: 1; SubFamily: Audio Operational Amplifier; Vmax(V): 32; Vmin(V): 5; Vn at Flatband(Typ)(nV/rtHz): 1.3; DatasheetVersion: SBOS286B; PackageVersion: 4073271/F, 05/2011; PackageReference: DGN8-1760X1425TP; PackageDescription: 8-Pin Plastic Small Outline, Body 3 x 3 mm, Pitch 0.65 mm; Supplier 1: Digi-Key; Supplier Part Number 1: OPA1632DGNRG4-ND; Supplier 2: Newark; Supplier Part Number 2: 24K4669; Supplier 3: Mouser; Supplier Part Number 3: 595-OPA1632DGNRG4; Eco-Plan: Green (RoHS & no Sb/Br); GBW(Typ)(MHz): 180; Mounting Technology: Surface Mount; Code_JEDEC: MO-187; ComponentLink1Description: Manufacturer URL; ComponentLink1URL: http://www.ti.com/; ComponentLink2Description: Datasheet; ComponentLink2URL: http://www.ti.com/general/docs/lit/getliterature.tsp?genericPartNumber=OPA1632&fileType=pdf; ComponentLink3Description: Package Specification; ComponentLink3URL: http://www.ti.com/litv/pdf/mpds046e
footprint TI-DGN8-1760X1425TP_N (SOP, 8-Leads, Body 3x3mm, Pitch 0.65mm, Thermal Pad 1.76x1.425mm, IPC Medium Density)
footprint TI-DGN8-1760X1425TP_L (SOP, 8-Leads, Body 3x3mm, Pitch 0.65mm, Thermal Pad 1.76x1.425mm, IPC High Density)
footprint TI-DGN8-1760X1425TP_M (SOP, 8-Leads, Body 3x3mm, Pitch 0.65mm, Thermal Pad 1.76 x 1.425 mm, IPC Low Density)
pins: 1 VIN- (in), 2 VOCM (in), 3 V+ (power), 4 VOUT+ (out), 5 VOUT- (out), 6 V- (power), 7 ENABLE (in), 8 VIN+ (in), 9 EP

## OPA1632DR
designator U?
Fully Differential I/O Audio Amplifier, 5 to 32 V, -40 to 85 degC, 8-pin SOIC (D8), Green (RoHS & no Sb/Br); Manufacturer: Texas Instruments; PartNumber: OPA1632DR; BW @ Acl(MHz): 180; Iq per channel(Max)(mA): 17.1; Number of Channels: 1; SubFamily: Audio Operational Amplifier; Vmax(V): 32; Vmin(V): 5; Vn at Flatband(Typ)(nV/rtHz): 1.3; DatasheetVersion: SBOS286B; PackageVersion: 4040047-3/M, 06/2011; PackageReference: D8; PackageDescription: 8-Pin Plastic Small Outline, Body 4.9 x 3.9 mm, Pitch 1.27 mm; Supplier 1: Digi-Key; Supplier Part Number 1: OPA1632DR-ND; Supplier 2: Mouser; Supplier Part Number 2: 595-OPA1632DR; Eco-Plan: Green (RoHS & no Sb/Br); GBW(Typ)(MHz): 180; Mounting Technology: Surface Mount; Code_JEDEC: MS-012; ComponentLink1Description: Manufacturer URL; ComponentLink1URL: http://www.ti.com/; ComponentLink2Description: Datasheet; ComponentLink2URL: http://www.ti.com/general/docs/lit/getliterature.tsp?genericPartNumber=OPA1632&fileType=pdf; ComponentLink3Description: Package Specification; ComponentLink3URL: http://www.ti.com/litv/pdf/msoi002j
footprint TI-D8_N (SOIC, 8-Leads, Body 4.9x3.9mm, Pitch 1.27mm, IPC Medium Density)
footprint TI-D8_L (SOIC, 8-Leads, Body 4.9x3.9mm, Pitch 1.27mm, IPC High Density)
footprint TI-D8_M (SOIC, 8-Leads, Body 4.9x3.9mm, Pitch 1.27mm, IPC Low Density)
pins: 1 VIN- (in), 2 VOCM (in), 3 V+ (power), 4 VOUT+ (out), 5 VOUT- (out), 6 V- (power), 7 ENABLE (in), 8 VIN+ (in)

## OPA1632DRG4
designator U?
Fully Differential I/O Audio Amplifier, 5 to 32 V, -40 to 85 degC, 8-pin SOIC (D8), Green (RoHS & no Sb/Br); Manufacturer: Texas Instruments; PartNumber: OPA1632DRG4; BW @ Acl(MHz): 180; Iq per channel(Max)(mA): 17.1; Number of Channels: 1; SubFamily: Audio Operational Amplifier; Vmax(V): 32; Vmin(V): 5; Vn at Flatband(Typ)(nV/rtHz): 1.3; DatasheetVersion: SBOS286B; PackageVersion: 4040047-3/M, 06/2011; PackageReference: D8; PackageDescription: 8-Pin Plastic Small Outline, Body 4.9 x 3.9 mm, Pitch 1.27 mm; Supplier 1: Digi-Key; Supplier Part Number 1: OPA1632DRG4-ND; Supplier 2: Newark; Supplier Part Number 2: 33K5336; Supplier 3: Mouser; Supplier Part Number 3: 595-OPA1632DRG4; Eco-Plan: Green (RoHS & no Sb/Br); GBW(Typ)(MHz): 180; Mounting Technology: Surface Mount; Code_JEDEC: MS-012; ComponentLink1Description: Manufacturer URL; ComponentLink1URL: http://www.ti.com/; ComponentLink2Description: Datasheet; ComponentLink2URL: http://www.ti.com/general/docs/lit/getliterature.tsp?genericPartNumber=OPA1632&fileType=pdf; ComponentLink3Description: Package Specification; ComponentLink3URL: http://www.ti.com/litv/pdf/msoi002j
footprint TI-D8_N (SOIC, 8-Leads, Body 4.9x3.9mm, Pitch 1.27mm, IPC Medium Density)
footprint TI-D8_L (SOIC, 8-Leads, Body 4.9x3.9mm, Pitch 1.27mm, IPC High Density)
footprint TI-D8_M (SOIC, 8-Leads, Body 4.9x3.9mm, Pitch 1.27mm, IPC Low Density)
pins: 1 VIN- (in), 2 VOCM (in), 3 V+ (power), 4 VOUT+ (out), 5 VOUT- (out), 6 V- (power), 7 ENABLE (in), 8 VIN+ (in)

## OPA1641AID
designator U?
Sound-Plus High-Performance, JFET-Input Audio Operational Amplifier, 4.5 to 36 V, -40 to 85 degC, 8-pin SOIC (D8), Green (RoHS & no Sb/Br); Manufacturer: Texas Instruments; PartNumber: OPA1641AID; GBW(Typ)(MHz): 11; Iq per channel(Max)(mA): 2.3; Number of Channels: 1; Vmax(V): 36; Vmin(V): 4.5; Vn at Flatband(Typ)(nV/rtHz): 5.1; DatasheetVersion: SBOS484B; PackageVersion: 4040047-3/M, 06/2011; PackageReference: D8; PackageDescription: 8-Pin Plastic Small Outline, Body 4.9 x 3.9 mm, Pitch 1.27 mm; Supplier 1: Digi-Key; Supplier Part Number 1: 296-25613-5-ND; Supplier 2: Farnell; Supplier Part Number 2: 1815730; Supplier 3: Newark; Supplier Part Number 3: 60R2415; Supplier 4: Mouser; Supplier Part Number 4: 595-OPA1641AID; Eco-Plan: Green (RoHS & no Sb/Br); SubFamily: Audio Operational Amplifier; Mounting Technology: Surface Mount; Code_JEDEC: MS-012; ComponentLink1Description: Manufacturer URL; ComponentLink1URL: http://www.ti.com/; ComponentLink2Description: Datasheet; ComponentLink2URL: http://www.ti.com/general/docs/lit/getliterature.tsp?genericPartNumber=OPA1641&fileType=pdf; ComponentLink3Description: Package Specification; ComponentLink3URL: http://www.ti.com/litv/pdf/msoi002j
footprint TI-D8_N (SOIC, 8-Leads, Body 4.9x3.9mm, Pitch 1.27mm, IPC Medium Density)
footprint TI-D8_L (SOIC, 8-Leads, Body 4.9x3.9mm, Pitch 1.27mm, IPC High Density)
footprint TI-D8_M (SOIC, 8-Leads, Body 4.9x3.9mm, Pitch 1.27mm, IPC Low Density)
part A pins: 2 IN- (in), 3 IN+ (in), 4 V- (power), 6 OUT (out), 7 V+ (power)
part B pins: 1 NC, 5 NC, 8 NC

## OPA1641AIDGKR
designator U?
Sound-Plus High-Performance, JFET-Input Audio Operational Amplifier, 4.5 to 36 V, -40 to 85 degC, 8-pin SOP (DGK8), Green (RoHS & no Sb/Br); Manufacturer: Texas Instruments; PartNumber: OPA1641AIDGKR; GBW(Typ)(MHz): 11; Iq per channel(Max)(mA): 2.3; Number of Channels: 1; DatasheetVersion: SBOS484B; PackageVersion: 4073329/E, 05/2006; PackageReference: DGK8; PackageDescription: 8-Pin Thin Small Outline, Body 3 x 3 mm, Pitch 0.65 mm; Supplier 1: Digi-Key; Supplier Part Number 1: OPA1641AIDGKR-ND; Supplier 2: Mouser; Supplier Part Number 2: 595-OPA1641AIDGKR; Eco-Plan: Green (RoHS & no Sb/Br); SubFamily: Audio Operational Amplifier; Mounting Technology: Surface Mount; Code_JEDEC: MO-187; ComponentLink1Description: Manufacturer URL; ComponentLink1URL: http://www.ti.com/; ComponentLink2Description: Datasheet; ComponentLink2URL: http://www.ti.com/general/docs/lit/getliterature.tsp?genericPartNumber=OPA1641&fileType=pdf; ComponentLink3Description: Package Specification; ComponentLink3URL: http://www.ti.com/litv/pdf/mpds028d
footprint TI-DGK8_N (SOP, 8-Leads, Body 3x3mm, Pitch 0.65mm, IPC Medium Density)
footprint TI-DGK8_L (SOP, 8-Leads, Body 3x3mm, Pitch 0.65mm, IPC High Density)
footprint TI-DGK8_M (SOP, 8-Leads, Body 3x3mm, Pitch 0.65mm, IPC Low Density)
part A pins: 2 IN- (in), 3 IN+ (in), 4 V- (power), 6 OUT (out), 7 V+ (power)
part B pins: 1 NC, 5 NC, 8 NC

## OPA1641AIDGKT
designator U?
Sound-Plus High-Performance, JFET-Input Audio Operational Amplifier, 4.5 to 36 V, -40 to 85 degC, 8-pin SOP (DGK8), Green (RoHS & no Sb/Br); Manufacturer: Texas Instruments; PartNumber: OPA1641AIDGKT; GBW(Typ)(MHz): 11; Iq per channel(Max)(mA): 2.3; Number of Channels: 1; DatasheetVersion: SBOS484B; PackageVersion: 4073329/E, 05/2006; PackageReference: DGK8; PackageDescription: 8-Pin Thin Small Outline, Body 3 x 3 mm, Pitch 0.65 mm; Supplier 1: Digi-Key; Supplier Part Number 1: 296-28059-2-ND; Supplier 2: Digi-Key; Supplier Part Number 2: 296-28059-1-ND; Supplier 3: Digi-Key; Supplier Part Number 3: 296-28059-6-ND; Supplier 4: Mouser; Supplier Part Number 4: 595-OPA1641AIDGKT; Eco-Plan: Green (RoHS & no Sb/Br); SubFamily: Audio Operational Amplifier; Mounting Technology: Surface Mount; Code_JEDEC: MO-187; ComponentLink1Description: Manufacturer URL; ComponentLink1URL: http://www.ti.com/; ComponentLink2Description: Datasheet; ComponentLink2URL: http://www.ti.com/general/docs/lit/getliterature.tsp?genericPartNumber=OPA1641&fileType=pdf; ComponentLink3Description: Package Specification; ComponentLink3URL: http://www.ti.com/litv/pdf/mpds028d
footprint TI-DGK8_N (SOP, 8-Leads, Body 3x3mm, Pitch 0.65mm, IPC Medium Density)
footprint TI-DGK8_L (SOP, 8-Leads, Body 3x3mm, Pitch 0.65mm, IPC High Density)
footprint TI-DGK8_M (SOP, 8-Leads, Body 3x3mm, Pitch 0.65mm, IPC Low Density)
part A pins: 2 IN- (in), 3 IN+ (in), 4 V- (power), 6 OUT (out), 7 V+ (power)
part B pins: 1 NC, 5 NC, 8 NC

## OPA1641AIDR
designator U?
Sound-Plus High-Performance, JFET-Input Audio Operational Amplifier, 4.5 to 36 V, -40 to 85 degC, 8-pin SOIC (D8), Green (RoHS & no Sb/Br); Manufacturer: Texas Instruments; PartNumber: OPA1641AIDR; GBW(Typ)(MHz): 11; Iq per channel(Max)(mA): 2.3; Number of Channels: 1; Vmax(V): 36; Vmin(V): 4.5; Vn at Flatband(Typ)(nV/rtHz): 5.1; DatasheetVersion: SBOS484B; PackageVersion: 4040047-3/M, 06/2011; PackageReference: D8; PackageDescription: 8-Pin Plastic Small Outline, Body 4.9 x 3.9 mm, Pitch 1.27 mm; Supplier 1: Digi-Key; Supplier Part Number 1: OPA1641AIDR-ND; Supplier 2: Mouser; Supplier Part Number 2: 595-OPA1641AIDR; Eco-Plan: Green (RoHS & no Sb/Br); SubFamily: Audio Operational Amplifier; Mounting Technology: Surface Mount; Code_JEDEC: MS-012; ComponentLink1Description: Manufacturer URL; ComponentLink1URL: http://www.ti.com/; ComponentLink2Description: Datasheet; ComponentLink2URL: http://www.ti.com/general/docs/lit/getliterature.tsp?genericPartNumber=OPA1641&fileType=pdf; ComponentLink3Description: Package Specification; ComponentLink3URL: http://www.ti.com/litv/pdf/msoi002j
footprint TI-D8_N (SOIC, 8-Leads, Body 4.9x3.9mm, Pitch 1.27mm, IPC Medium Density)
footprint TI-D8_L (SOIC, 8-Leads, Body 4.9x3.9mm, Pitch 1.27mm, IPC High Density)
footprint TI-D8_M (SOIC, 8-Leads, Body 4.9x3.9mm, Pitch 1.27mm, IPC Low Density)
part A pins: 2 IN- (in), 3 IN+ (in), 4 V- (power), 6 OUT (out), 7 V+ (power)
part B pins: 1 NC, 5 NC, 8 NC

## OPA1642AID
designator U?
Sound-Plus High-Performance, JFET-Input Audio Operational Amplifier, 4.5 to 36 V, -40 to 85 degC, 8-pin SOIC (D8), Green (RoHS & no Sb/Br); Manufacturer: Texas Instruments; PartNumber: OPA1642AID; GBW(Typ)(MHz): 11; Iq per channel(Max)(mA): 2.3; Number of Channels: 2; Vmax(V): 36; Vmin(V): 5; Vn at Flatband(Typ)(nV/rtHz): 5.1; DatasheetVersion: SBOS484B; PackageVersion: 4040047-3/M, 06/2011; PackageReference: D8; PackageDescription: 8-Pin Plastic Small Outline, Body 4.9 x 3.9 mm, Pitch 1.27 mm; Supplier 1: Digi-Key; Supplier Part Number 1: 296-25614-5-ND; Supplier 2: Farnell; Supplier Part Number 2: 1815731; Supplier 3: Newark; Supplier Part Number 3: 60R2416; Supplier 4: Mouser; Supplier Part Number 4: 595-OPA1642AID; Eco-Plan: Green (RoHS & no Sb/Br); SubFamily: Audio Operational Amplifier; Mounting Technology: Surface Mount; Code_JEDEC: MS-012; ComponentLink1Description: Manufacturer URL; ComponentLink1URL: http://www.ti.com/; ComponentLink2Description: Datasheet; ComponentLink2URL: http://www.ti.com/general/docs/lit/getliterature.tsp?genericPartNumber=OPA1642&fileType=pdf; ComponentLink3Description: Package Specification; ComponentLink3URL: http://www.ti.com/litv/pdf/msoi002j
footprint TI-D8_N (SOIC, 8-Leads, Body 4.9x3.9mm, Pitch 1.27mm, IPC Medium Density)
footprint TI-D8_L (SOIC, 8-Leads, Body 4.9x3.9mm, Pitch 1.27mm, IPC High Density)
footprint TI-D8_M (SOIC, 8-Leads, Body 4.9x3.9mm, Pitch 1.27mm, IPC Low Density)
pins on every part: 4 V- (power), 8 V+ (power)
part A pins: 1 OUT A (out), 2 IN A- (in), 3 IN A+ (in)
part B pins: 5 IN B+ (in), 6 IN B- (in), 7 OUT B (out)

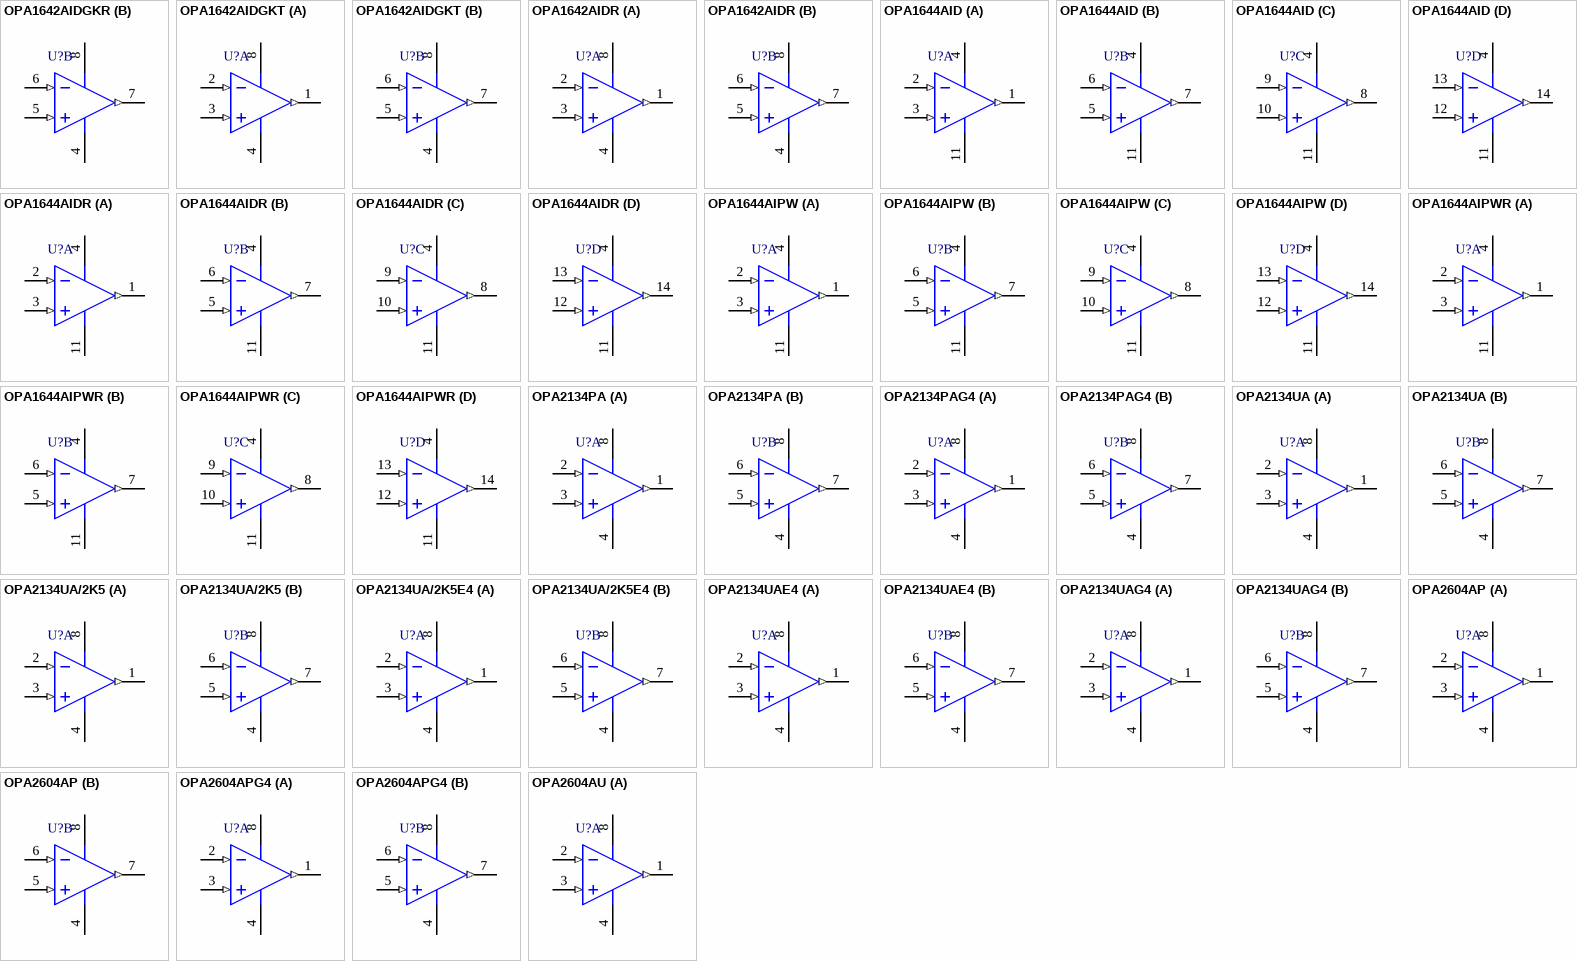
[diagram p1: symbols OPA1642AIDGKR to OPA2604AU]

## OPA1642AIDGKR
designator U?
Sound-Plus High-Performance, JFET-Input Audio Operational Amplifier, 4.5 to 36 V, -40 to 85 degC, 8-pin SOP (DGK8), Green (RoHS & no Sb/Br); Manufacturer: Texas Instruments; PartNumber: OPA1642AIDGKR; GBW(Typ)(MHz): 11; Iq per channel(Max)(mA): 2.3; Number of Channels: 2; Vmax(V): 36; Vmin(V): 5; Vn at Flatband(Typ)(nV/rtHz): 5.1; DatasheetVersion: SBOS484B; PackageVersion: 4073329/E, 05/2006; PackageReference: DGK8; PackageDescription: 8-Pin Thin Small Outline, Body 3 x 3 mm, Pitch 0.65 mm; Supplier 1: Digi-Key; Supplier Part Number 1: OPA1642AIDGKR-ND; Supplier 2: Newark; Supplier Part Number 2: 68R9804; Supplier 3: Mouser; Supplier Part Number 3: 595-OPA1642AIDGKR; Eco-Plan: Green (RoHS & no Sb/Br); SubFamily: Audio Operational Amplifier; Mounting Technology: Surface Mount; Code_JEDEC: MO-187; ComponentLink1Description: Manufacturer URL; ComponentLink1URL: http://www.ti.com/; ComponentLink2Description: Datasheet; ComponentLink2URL: http://www.ti.com/general/docs/lit/getliterature.tsp?genericPartNumber=OPA1642&fileType=pdf; ComponentLink3Description: Package Specification; ComponentLink3URL: http://www.ti.com/litv/pdf/mpds028d
footprint TI-DGK8_N (SOP, 8-Leads, Body 3x3mm, Pitch 0.65mm, IPC Medium Density)
footprint TI-DGK8_L (SOP, 8-Leads, Body 3x3mm, Pitch 0.65mm, IPC High Density)
footprint TI-DGK8_M (SOP, 8-Leads, Body 3x3mm, Pitch 0.65mm, IPC Low Density)
pins on every part: 4 V- (power), 8 V+ (power)
part A pins: 1 OUT A (out), 2 IN A- (in), 3 IN A+ (in)
part B pins: 5 IN B+ (in), 6 IN B- (in), 7 OUT B (out)

## OPA1642AIDGKT
designator U?
Sound-Plus High-Performance, JFET-Input Audio Operational Amplifier, 4.5 to 36 V, -40 to 85 degC, 8-pin SOP (DGK8), Green (RoHS & no Sb/Br); Manufacturer: Texas Instruments; PartNumber: OPA1642AIDGKT; GBW(Typ)(MHz): 11; Iq per channel(Max)(mA): 2.3; Number of Channels: 2; Vmax(V): 36; Vmin(V): 5; Vn at Flatband(Typ)(nV/rtHz): 5.1; DatasheetVersion: SBOS484B; PackageVersion: 4073329/E, 05/2006; PackageReference: DGK8; PackageDescription: 8-Pin Thin Small Outline, Body 3 x 3 mm, Pitch 0.65 mm; Supplier 1: Digi-Key; Supplier Part Number 1: 296-25796-2-ND; Supplier 2: Digi-Key; Supplier Part Number 2: 296-25796-1-ND; Supplier 3: Digi-Key; Supplier Part Number 3: 296-25796-6-ND; Supplier 4: Farnell; Supplier Part Number 4: 2323354; Supplier 5: Newark; Supplier Part Number 5: 96W3066; Supplier 6: Newark; Supplier Part Number 6: 68R9805; Supplier 7: Mouser; Supplier Part Number 7: 595-OPA1642AIDGKT; Eco-Plan: Green (RoHS & no Sb/Br); SubFamily: Audio Operational Amplifier; Mounting Technology: Surface Mount; Code_JEDEC: MO-187; ComponentLink1Description: Manufacturer URL; ComponentLink1URL: http://www.ti.com/; ComponentLink2Description: Datasheet; ComponentLink2URL: http://www.ti.com/general/docs/lit/getliterature.tsp?genericPartNumber=OPA1642&fileType=pdf; ComponentLink3Description: Package Specification; ComponentLink3URL: http://www.ti.com/litv/pdf/mpds028d
footprint TI-DGK8_N (SOP, 8-Leads, Body 3x3mm, Pitch 0.65mm, IPC Medium Density)
footprint TI-DGK8_L (SOP, 8-Leads, Body 3x3mm, Pitch 0.65mm, IPC High Density)
footprint TI-DGK8_M (SOP, 8-Leads, Body 3x3mm, Pitch 0.65mm, IPC Low Density)
pins on every part: 4 V- (power), 8 V+ (power)
part A pins: 1 OUT A (out), 2 IN A- (in), 3 IN A+ (in)
part B pins: 5 IN B+ (in), 6 IN B- (in), 7 OUT B (out)